# Altium schematic symbol library Symbols.SchLib: 4 symbols
Pins are listed as number, name and electrical type; pins without a type are passive.

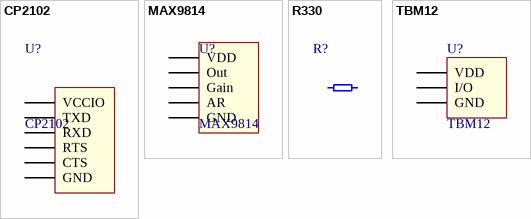
[diagram p0: symbols CP2102 to TBM12]

## CP2102
designator U?
UART-USB converter module
footprint CP2102_MD
pins: 0 VCCIO, 1 TXD, 2 RXD, 3 RTS, 4 CTS, 5 GND

## MAX9814
designator U?
Microphone module. 3.3V - 5V. Output: 2Vpp max
footprint MAX9814
pins: 0 VDD (power), 1 Out, 2 Gain (power), 3 AR, 4 GND

## R330
designator R?
footprint SMD
pins: 0 1, 1 2

## TBM12
designator U?
Passive buzzer. 3.3V - 5V
footprint TBM12
pins: 0 VDD (power), 1 I/O, 2 GND